# EAGLE library part 53460-0629 (library molexmod)
IEEE 1394 Firewire Connector 6P 2.0 I/O SOCKET RIGHT-ANGLE UPRIGHT WITH KINK Source: 53460-0629.pdf also DWG.NO. SD-53460-0621
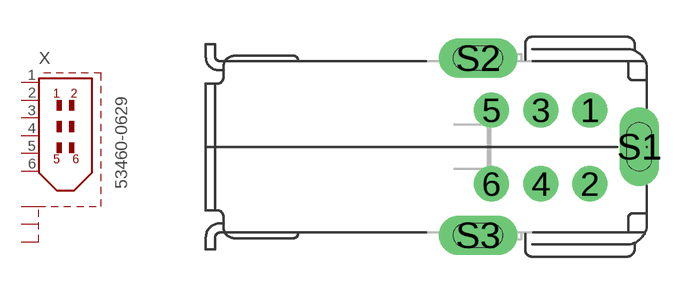
[diagram p210: symbol with the pads of 53460-0629; footprint 53460-0629]

Designator prefix X

## 53460-0629 (MF: MOLEX; MPN: 53460-0629; OC_FARNELL: unknown; OC_NEWARK: 84K7541)  [53460-0629]
1  1  pas
2  2  pas
3  3  pas
4  4  pas
5  5  pas
6  6  pas
S1  S1  pas
S2  S2  pas
S3  S3  pas

## Footprint 53460-0629 (pad centres in mm)
2.00mm Pitch IEEE 1394-1995 Shielded I/O PCB Socket, Right Angle, Upright, with Kinked Solder Tabs Datasheet <http://www.molex.com/pdm_docs/sd/534600629_sd.pdf>
drill 0.8 pad 1.422: 1 2,1.5; 2 2,-1.5; 3 0,1.5; 4 0,-1.5; 5 -2,1.5; 6 -2,-1.5
drill 1 pad 1.6 long: S1 4,0; S2 -2.55,3.6; S3 -2.55,-3.6